# Altium schematic symbol library Miscellaneous.SchLib: 16 symbols
Pins are listed as number, name and electrical type; pins without a type are passive.

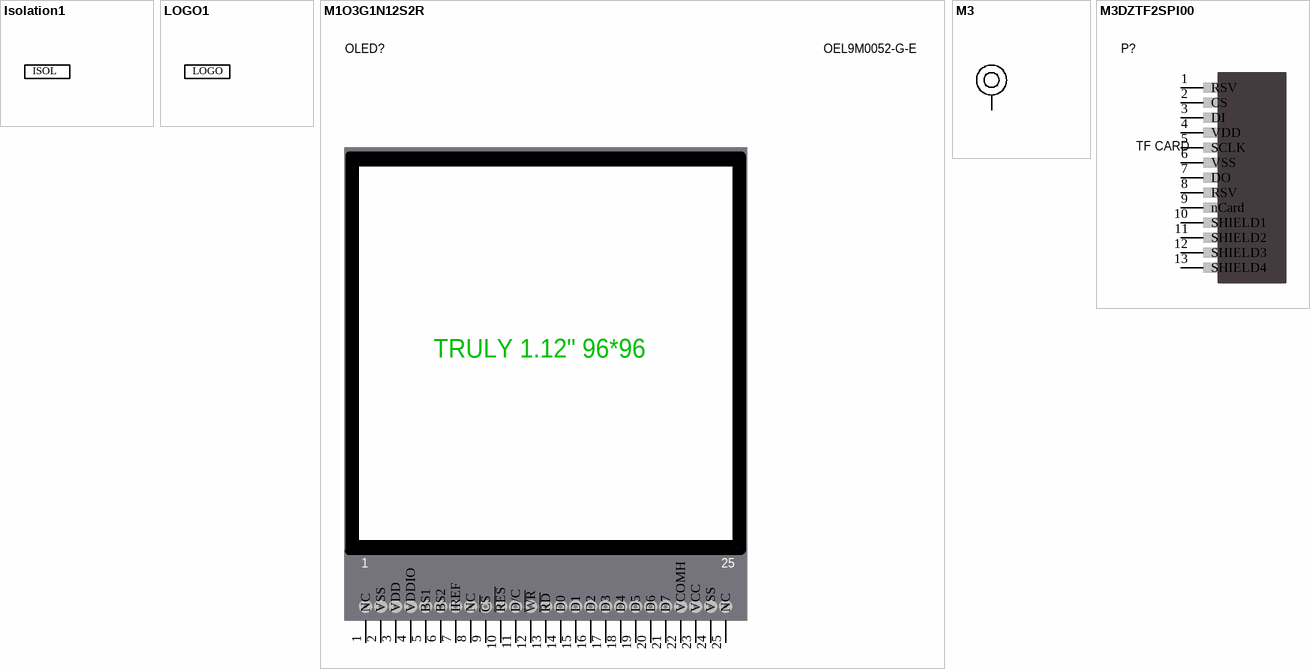
[diagram p0: symbols Isolation1 to M3DZTF2SPI00]

## Isolation1
designator I?, comment Isolation
Manufacturer: *; MountType: *; PackageDescription: *; PackageReference: *; Published: 1-Jun-2017; Publisher: GreenBox; TemperatureRange: *; VenderID: *
footprint ISOLATION
text: ISOL

## LOGO1
designator LOGO?, comment LOGO-GREENBOX
LOGO; Manufacturer: *; MountType: *; PackageDescription: *; PackageReference: *; Published: 1-Jun-2017; Publisher: GreenBox; TemperatureRange: *; VenderID: *
footprint LOGO-GREENBOX

## M1O3G1N12S2R
designator OLED?, comment OEL9M0052-G-E
OLED 1.12 inches (Green) 96x96px; Manufacturer: TRULY; TemperatureRange: -20 to 70°C; MountType: SMT; PackageDescription: TRULY 1.12" 96*96; PackageReference: OEL9M0052; Published: 1-Jun-2017; Publisher: GreenBox; VenderID: OEL9M0052-G-E
footprint OEL9M0052
pins: 1 NC, 2 VSS, 3 VDD, 4 VDDIO, 5 BS1, 6 BS2, 7 IREF, 8 NC, 9 ~{CS}, 10 ~{RES}, 11 D/C, 12 ~{WR}, 13 ~{RD}, 14 D0, 15 D1, 16 D2, 17 D3, 18 D4, 19 D5, 20 D6, 21 D7, 22 VCOMH, 23 VCC, 24 VSS, 25 NC

## M3
designator M?
Mounting Hole M3; Manufacturer: *; MountType: *; PackageDescription: *; PackageReference: *; Published: 1-Jun-2017; Publisher: GreenBox; TemperatureRange: *; VenderID: *
footprint M3-C-3.5
pins: 1 AC

## M3DZTF2SPI00
designator P?, comment TF CARD
TF CARD Pudsh-Push SPIMode; Manufacturer: TEXAS INSTRUMENTS; VenderID: TF卡座自弹式; MountType: SMT; PackageReference: TF-2; Published: 1-Jun-2017; Publisher: GreenBox; TemperatureRange: *
footprint TF-2
pins: 1 RSV, 2 CS, 3 DI, 4 VDD, 5 SCLK, 6 VSS, 7 DO, 8 RSV, 9 nCard, 10 SHIELD1, 11 SHIELD2, 12 SHIELD3, 13 SHIELD4
2 alternate drawings of the same symbol

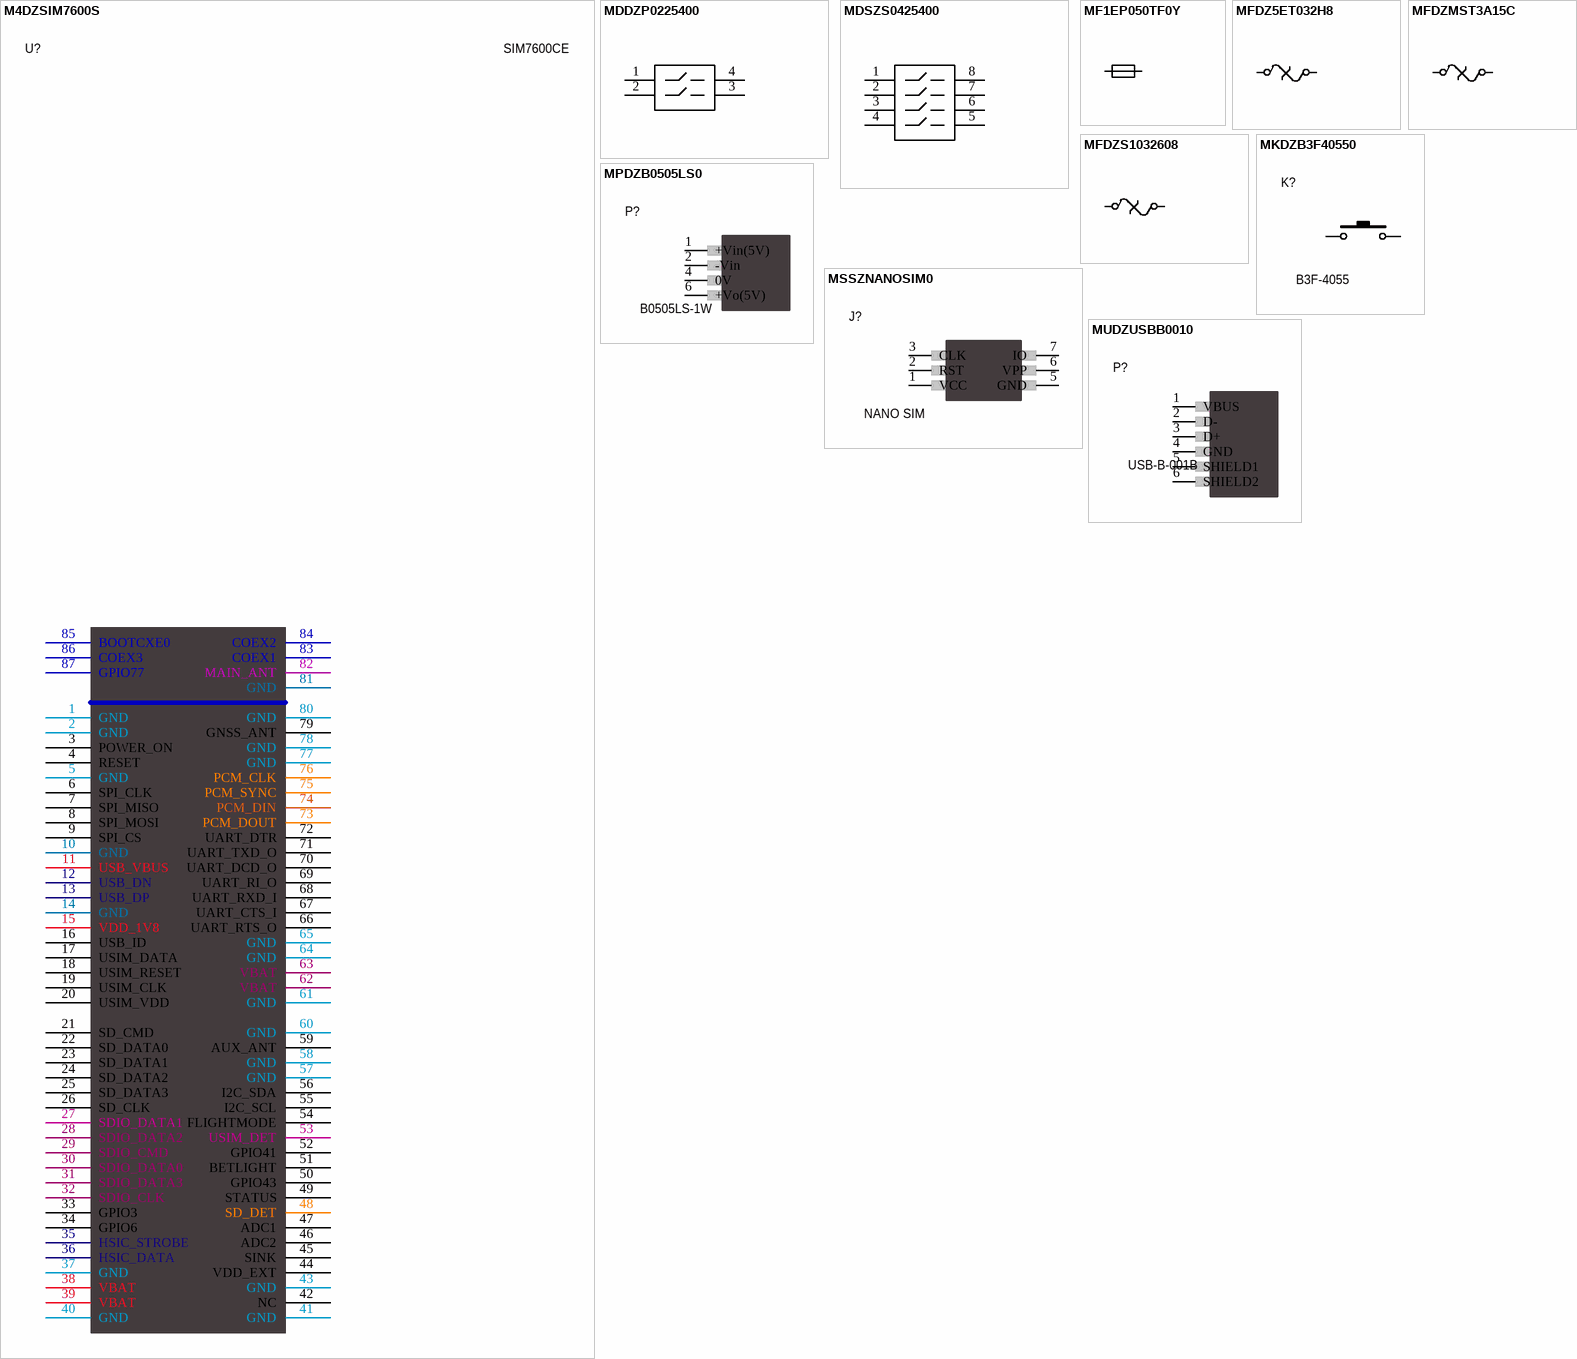
[diagram p1: symbols M4DZSIM7600S to MUDZUSBB0010]

## M4DZSIM7600S
designator U?, comment SIM7600CE
4G Module SIM7600CE; Manufacturer: SIMCOM; TemperatureRange: -40 to 85°C; MountType: DIP; PackageDescription: *; PackageReference: SIM7600CE; Published: 1-Jun-2017; Publisher: GreenBox; VenderID: SIM7600CE
footprint SIM7600CE
pins: 1 GND, 2 GND, 3 POWER_ON, 4 RESET, 5 GND, 6 SPI_CLK, 7 SPI_MISO, 8 SPI_MOSI, 9 SPI_CS, 10 GND, 11 USB_VBUS, 12 USB_DN, 13 USB_DP, 14 GND, 15 VDD_1V8, 16 USB_ID, 17 USIM_DATA, 18 USIM_RESET, 19 USIM_CLK, 20 USIM_VDD, 21 SD_CMD, 22 SD_DATA0, 23 SD_DATA1, 24 SD_DATA2, 25 SD_DATA3, 26 SD_CLK, 27 SDIO_DATA1, 28 SDIO_DATA2, 29 SDIO_CMD, 30 SDIO_DATA0, 31 SDIO_DATA3, 32 SDIO_CLK, 33 GPIO3, 34 GPIO6, 35 HSIC_STROBE, 36 HSIC_DATA, 37 GND, 38 VBAT, 39 VBAT, 40 GND, 41 GND, 42 NC, 43 GND, 44 VDD_EXT, 45 SINK, 46 ADC2, 47 ADC1, 48 SD_DET, 49 STATUS, 50 GPIO43, 51 BETLIGHT, 52 GPIO41, 53 USIM_DET, 54 FLIGHTMODE, 55 I2C_SCL, 56 I2C_SDA, 57 GND, 58 GND, 59 AUX_ANT, 60 GND, 61 GND, 62 VBAT, 63 VBAT, 64 GND, 65 GND, 66 UART_RTS_O, 67 UART_CTS_I, 68 UART_RXD_I, 69 UART_RI_O, 70 UART_DCD_O, 71 UART_TXD_O, 72 UART_DTR, 73 PCM_DOUT, 74 PCM_DIN, 75 PCM_SYNC, 76 PCM_CLK, 77 GND, 78 GND, 79 GNSS_ANT, 80 GND, 81 GND, 82 MAIN_ANT, 83 COEX1, 84 COEX2, 85 BOOTCXE0, 86 COEX3, 87 GPIO77

## MDDZP0225400
designator S?, comment Dial Switch
Dial Switch  2P 2.54mm Piano Type; TemperatureRange: -20 to 70°C; VenderID: 2P插件琴键式拨码开关 2.54MM; Manufacturer: *; MountType: DIP; PackageDescription: *; PackageReference: DS-PIANO-2; Published: 1-Jun-2017; Publisher: GreenBox
footprint DS-PIANO-2
pins: 1, 2, 3, 4

## MDSZS0425400
designator S?, comment Dial Switch
Dial Switch 4P 2.54mm SMD Slide Type; TemperatureRange: -20 to 70°C; VenderID: 4P贴片平拨拨码开关 2.54MM; Manufacturer: *; MountType: SMT; PackageDescription: Body 3.2 x 1.6 mm (LxW typ); PackageReference: DS254S-4P; Published: 1-Jun-2017; Publisher: GreenBox
footprint DS254S-4P
pins: 1, 2, 3, 4, 5, 6, 7, 8

## MF1EP050TF0Y
designator F?, comment SMD1206P050TF
Resettable Fuse SMD1206P050TF 1206 500mA; Manufacturer: RUILONGYUAN ELECTRONICS; TemperatureRange: -20 to 70°C; MountType: SMT; PackageDescription: Body 3.2 x 1.6 mm (LxW typ); PackageReference: 1206; Published: 1-Jun-2017; Publisher: GreenBox; VenderID: SMD1206P050TF
footprint 1206-F (Body 3.2 x 1.6 mm (LxW typ))
pins: 1, 2

## MFDZ5ET032H8
designator F?, comment 5ET-032H
Fuse 5ET-032H 3.15A 250v; Manufacturer: HOLLYLAND; TemperatureRange: -55 to 125°C; MountType: DIP; PackageDescription: Body 8.5 x 4 mm (LxW typ); PackageReference: FUSE-5ET; Published: 1-Jun-2017; Publisher: GreenBox; VenderID: 5ET-032H
footprint FUSE-5ET (Body 8.5 x 4 mm (LxW typ))
pins: 1, 2

## MFDZMST3A15C
designator F?, comment MST T3.15A 250v
Fuse MST T3.15A 250v; Manufacturer: CONQUER  ELECTRONICS; TemperatureRange: -55 to 125°C; MountType: DIP; PackageDescription: Body 8.5 x 4 mm (LxW typ); PackageReference: FUSE-5ET; Published: 1-Jun-2017; Publisher: GreenBox; VenderID: MST T3.15A 250v
footprint FUSE-5ET (Body 8.5 x 4 mm (LxW typ))
pins: 1, 2

## MFDZS1032608
designator F?, comment S1032-F-60A
Fuse S1032-F-60A 60A 250v; Manufacturer: SART TECHNOLOGY; TemperatureRange: -55 to 125°C; MountType: SMT; PackageReference: FUSE-1032; Published: 1-Jun-2017; Publisher: GreenBox; VenderID: S1032-F-60A
footprint FUSE-1032
pins: 1, 2

## MKDZB3F40550
designator K?, comment B3F-4055
SWITCH B3F-4055; Manufacturer: *; MountType: DIP; PackageReference: B3F-4055; Published: 1-Jun-2017; Publisher: GreenBox; TemperatureRange: *; VenderID: B3F-4055
footprint B3F-4055
pins: 1, 2, 3, 4
2 alternate drawings of the same symbol

## MPDZB0505LS0
designator P?, comment B0505LS-1W
DC-DC B0505LS-1W 5V->5V 200mA 81%; TemperatureRange: -40 to 85°C; Manufacturer: *; MountType: SMT; PackageReference: B-LS-1W; Published: 1-Jun-2017; Publisher: GreenBox; VenderID: B0505LS-1W
footprint B-LS-1W
pins: 1 +Vin(5V), 2 -Vin, 4 0V, 6 +Vo(5V)
2 alternate drawings of the same symbol

## MSSZNANOSIM0
designator J?, comment NANO SIM
VenderID: 插拔式 Nano-SIM卡座; Manufacturer: *; MountType: SMT; PackageReference: NANO-SIM; Published: 1-Jun-2017; Publisher: GreenBox; TemperatureRange: *
footprint NANO-SIM
pins: 1 VCC, 2 RST, 3 CLK, 5 GND, 6 VPP, 7 IO
2 alternate drawings of the same symbol

## MUDZUSBB0010
designator P?, comment USB-B-001B
Series USB-B USB-B-001B; TemperatureRange: -55 to 85°C; MountType: SMT; PackageReference: USB-B-001; Published: 1-Jun-2017; Publisher: GreenBox; VenderID: USB-B-001B
footprint USB-B-001 (USB方孔)
pins: 1 VBUS, 2 D-, 3 D+, 4 GND, 5 SHIELD1, 6 SHIELD2
2 alternate drawings of the same symbol